# Altium footprint library ICM-20649.PcbLib: 2 footprints
Each footprint in its own frame and in the unit in brackets; x right, y up, seen from the top. Pads: shape width x height; smd on the part's side, far side on the other; paste and mask are expansions set on the pad; w line width, h text height; cw(c..) or ccw(c..) is an arc to the next point about the centre after c.
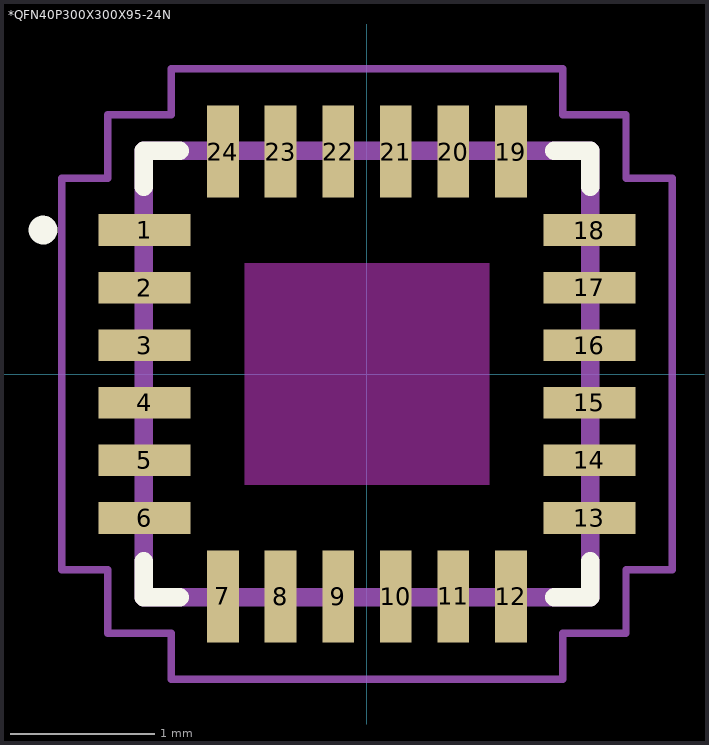
[diagram p0: the footprints below, top view; thin cyan lines are the x and y axes]

## *QFN40P300X300X95-24N [mm]
pads (24):
  rect 0.64x0.22 smd: 1(-1.545,1) 2(-1.545,0.6) 3(-1.545,0.2) 4(-1.545,-0.2) 5(-1.545,-0.6) 6(-1.545,-1) 13(1.545,-1) 14(1.545,-0.6) 15(1.545,-0.2) 16(1.545,0.2) 17(1.545,0.6) 18(1.545,1)
  rect 0.22x0.64 smd: 7(-1,-1.545) 8(-0.6,-1.545) 9(-0.2,-1.545) 10(0.2,-1.545) 11(0.6,-1.545) 12(1,-1.545) 19(1,1.545) 20(0.6,1.545) 21(0.2,1.545) 22(-0.2,1.545) 23(-0.6,1.545) 24(-1,1.545)
Top Overlay:
  circle w0.1: c-2.25,1 r0.05
  lines w0.127: -1.55,-1.3 -1.55,-1.55 -1.3,-1.55 ; -1.55,1.3 -1.55,1.55 -1.3,1.55 ; 1.3,-1.55 1.55,-1.55 1.55,-1.3 ; 1.3,1.55 1.55,1.55 1.55,1.3
Keep-Out Layer:
  region: -0.85,0.77 0.85,0.77 0.85,-0.77 -0.85,-0.77
  region: -0.85,0.77 0.85,0.77 0.85,-0.77 -0.85,-0.77
  region: -0.85,0.77 0.85,0.77 0.85,-0.77 -0.85,-0.77
  region: -0.85,0.77 0.85,0.77 0.85,-0.77 -0.85,-0.77
  region: -0.85,0.77 0.85,0.77 0.85,-0.77 -0.85,-0.77
  region: -0.85,0.77 0.85,0.77 0.85,-0.77 -0.85,-0.77
Mechanical 13:
  circle w0.1: c-1.75,1 r0.05
  circle w0.1: c-1.75,1 r0.05
  lines w0.127: -1.55,-1.55 -1.55,1.55 ; -1.55,-1.55 1.55,-1.55 ; -1.55,-1.55 -1.55,1.55 ; -1.55,-1.55 1.55,-1.55 ; -1.55,1.55 1.55,1.55 ; -1.55,1.55 1.55,1.55 ; 1.55,-1.55 1.55,1.55 ; 1.55,-1.55 1.55,1.55
Mechanical 15:
  lines w0.05: -2.12,-1.36 -1.8,-1.36 -1.8,-1.8 -1.36,-1.8 -1.36,-2.12 1.36,-2.12 1.36,-1.8 1.8,-1.8 1.8,-1.36 2.12,-1.36 2.12,1.36 1.8,1.36 1.8,1.8 1.36,1.8 1.36,2.12 -1.36,2.12 -1.36,1.8 -1.8,1.8 -1.8,1.36 -2.12,1.36 -2.12,-1.36

## PCBComponent_1 [mm]